# EAGLE library part BQ2954 (library space-concordia-power)
Texas Instruments Li-Ion Smart Battery Charger
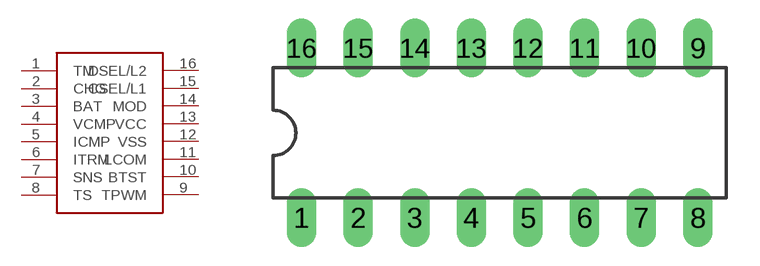
[diagram p1: symbol with the pads of DIL16; footprint DIL16]

Designator prefix -

## BQ2954  [DIL16]
1  TM
2  CHG
3  BAT
4  VCMP
5  ICMP
6  ITRM
7  SNS
8  TS
9  TPWM
10  BTST
11  LCOM
12  VSS
13  VCC
14  MOD
15  CSEL/L1
16  DSEL/L2

## Footprint DIL16 (pad centres in mm)
Dual In Line Package
drill 0.813 long: 1 -8.89,-3.81; 2 -6.35,-3.81; 3 -3.81,-3.81; 4 -1.27,-3.81; 5 1.27,-3.81; 6 3.81,-3.81; 7 6.35,-3.81; 8 8.89,-3.81; 9 8.89,3.81; 10 6.35,3.81; 11 3.81,3.81; 12 1.27,3.81; 13 -1.27,3.81; 14 -3.81,3.81; 15 -6.35,3.81; 16 -8.89,3.81